# EAGLE library part AD4PS-1+ (library AD4PS-1+)
Surface Mount Power Splitter/Combiner Source: Datasheet <https://datasheet.datasheetarchive.com/originals/distributors/Datasheets-28/DSA-545302.pdf>
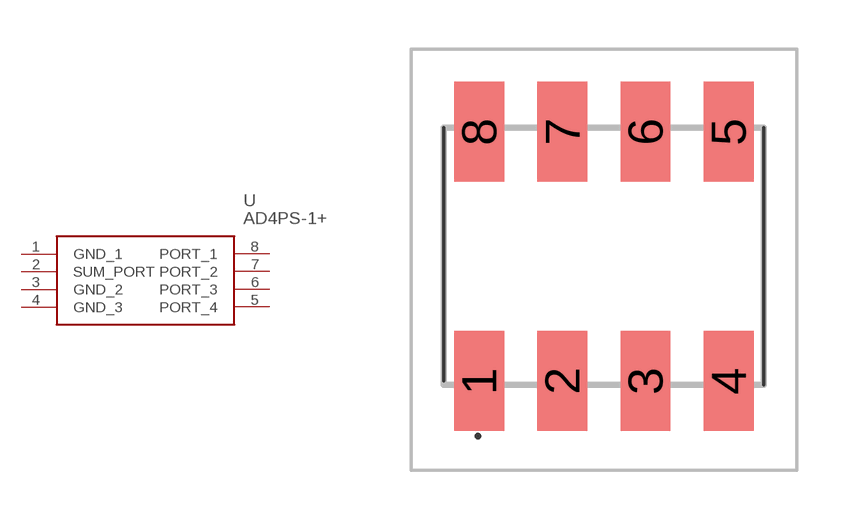
[diagram p0: symbol with the pads of AD4PS1; footprint AD4PS1]

Designator prefix U

## AD4PS-1+ (Description: Surface Mount Power Splitter/Combiner; Height: 5.46mm; Manufacturer_Name: Mini-Circuits; Manufacturer_Part_Number: AD4PS-1+; Mouser_Part_Number: 139-AD4PS-1; Mouser_Price-Stock: https://www.mouser.co.uk/ProductDetail/Mini-Circuits/AD4PS-1%2b?qs=xZ%2FP%252Ba9zWqZJZSnldG1sZA%3D%3D)  [AD4PS1]
1  GND_1
2  SUM_PORT
3  GND_2
4  GND_3
5  PORT_4
6  PORT_3
7  PORT_2
8  PORT_1

## Footprint AD4PS1 (pad centres in mm)
AD4PS-1+
smd 1.52 x 3.05: 1 -3.81,-3.81; 2 -1.27,-3.81; 3 1.27,-3.81; 4 3.81,-3.81; 5 3.81,3.81; 6 1.27,3.81; 7 -1.27,3.81; 8 -3.81,3.81